# Altium integrated library Infineon_Microcontroller.IntLib: 721 symbols (part 64 of 66)
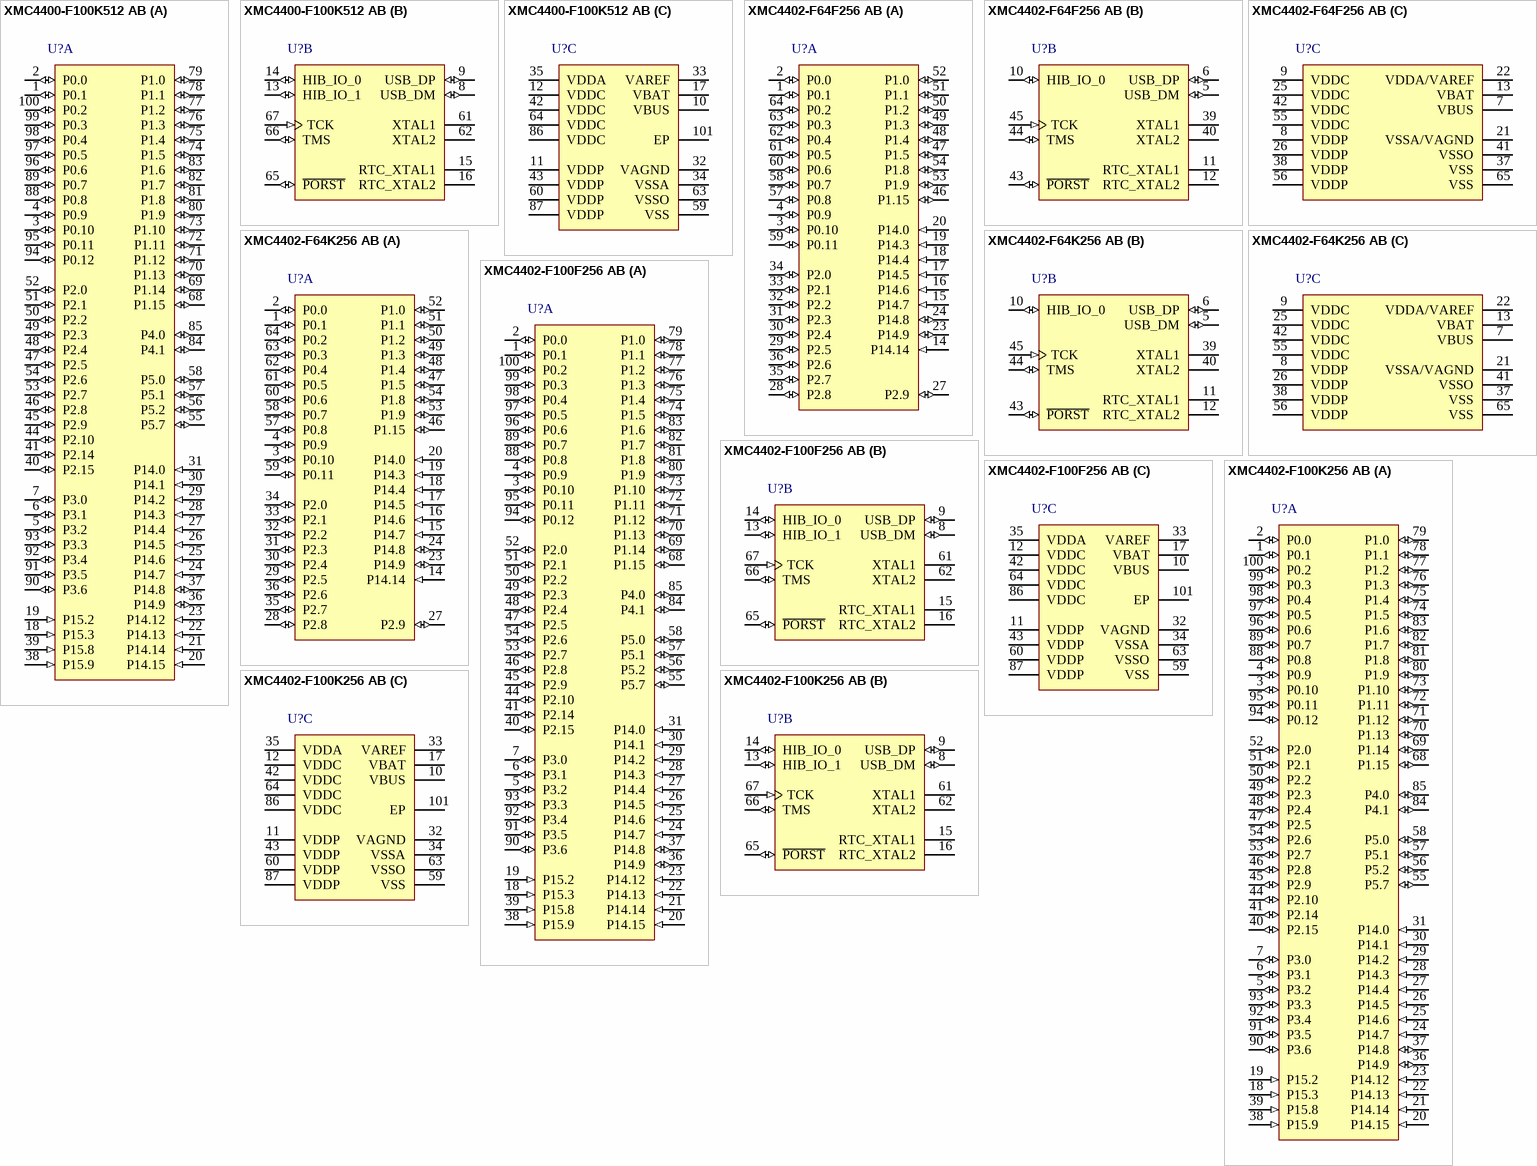
[diagram p181: symbols XMC4400-F100K512 AB to XMC4402-F100K256 AB]

## XMC4402-F100K256 AB
designator U?
120 MHz XMC4400 MCU with 256 KByte Program Memory, 80 KByte SRAM, 3.3 V, -40 to 125 degC, PG-LQFP-100, Green; Manufacturer: Infineon; PartNumber: XMC4402-F100K256 AB; A / D input lines (incl. FADC): 18; Digital I/O Lines: 55; Green: TRUE; Type of Memory: Flash; Type of Serial I/O Interfaces: 4xSPI, Dual SPI, Quad SPI, UART, LIN, IIC, IIS; DatasheetVersion: Rev. 0.6; PackageVersion: Rev. 11, 11/2012; PackageReference: PG-LQFP-100-11; PackageDescription: 100-Pin Plastic (Green) Low Profile Quad Flat Package, 14 x 14 mm Body, 0.5 mm Pitch; Group: XMC4400; Halogen-free: TRUE; Program Memory: 256 KByte; RoHS: TRUE; SRAM (incl. Cache): 80 KByte; Mounting Technology: Surface Mount; ComponentLink1Description: Manufacturer URL; ComponentLink1URL: http://www.infineon.com/; ComponentLink2Description: Datasheet; ComponentLink2URL: http://www.infineon.com/dgdl/xmc4400_ds_v0.6_2012_11_.pdf?folderId=db3a30433580b3710135a47f3eb76c98&fileId=db3a30433afc7e3e013b3cfb455565a3&location=en.Products.Microcontrollers.32-bit_Industrial_Microcontrollers_based_on_ARM__Cortex_-M.32-bit_XMC4000_Industrial_Microcontrollers_ARM__Cortex_-M4.DATASHEET.xmc4400_ds_v0.6_2012_11_.pdf; ComponentLink3Description: Package Specification; ComponentLink3URL: http://www.infineon.com/dgdl/xmc4400_ds_v0.6_2012_11_.pdf?folderId=db3a30433580b3710135a47f3eb76c98&fileId=db3a30433afc7e3e013b3cfb455565a3&location=en.Products.Microcontrollers.32-bit_Industrial_Microcontrollers_based_on_ARM__Cortex_-M.32-bit_XMC4000_Industrial_Microcontrollers_ARM__Cortex_-M4.DATASHEET.xmc4400_ds_v0.6_2012_11_.pdf
footprint INF-PG-LQFP-100-11-7000X7000TP_N (QFP, 100-Leads, Body 14x14mm, Pitch 0.5mm, Thermal Pad 7x7mm, IPC Medium Density)
footprint INF-PG-LQFP-100-11-7000X7000TP_L (QFP, 100-Leads, Body 14x14mm, Pitch 0.5mm, Thermal Pad 7x7mm, IPC High Density)
footprint INF-PG-LQFP-100-11-7000X7000TP_M (QFP, 100-Leads, Body 14x14mm, Pitch 0.5mm, Thermal Pad 7x7mm, IPC Low Density)
part A pins: 1 P0.1 (io), 2 P0.0 (io), 3 P0.10 (io), 4 P0.9 (io), 5 P3.2 (io), 6 P3.1 (io), 7 P3.0 (io), 18 P15.3 (in), 19 P15.2 (in), 20 P14.15 (in), 21 P14.14 (in), 22 P14.13 (in), 23 P14.12 (in), 24 P14.7 (in), 25 P14.6 (in), 26 P14.5 (in), 27 P14.4 (in), 28 P14.3 (in), 29 P14.2 (in), 30 P14.1 (in), 31 P14.0 (in), 36 P14.9 (io), 37 P14.8 (io), 38 P15.9 (in), 39 P15.8 (in), 40 P2.15 (io), 41 P2.14 (io), 44 P2.10 (io), 45 P2.9 (io), 46 P2.8 (io), 47 P2.5 (io), 48 P2.4 (io), 49 P2.3 (io), 50 P2.2 (io), 51 P2.1 (io), 52 P2.0 (io), 53 P2.7 (io), 54 P2.6 (io), 55 P5.7 (io), 56 P5.2 (io), 57 P5.1 (io), 58 P5.0 (io), 68 P1.15 (io), 69 P1.14 (io), 70 P1.13 (io), 71 P1.12 (io), 72 P1.11 (io), 73 P1.10 (io), 74 P1.5 (io), 75 P1.4 (io), 76 P1.3 (io), 77 P1.2 (io), 78 P1.1 (io), 79 P1.0 (io), 80 P1.9 (io), 81 P1.8 (io), 82 P1.7 (io), 83 P1.6 (io), 84 P4.1 (io), 85 P4.0 (io), 88 P0.8 (io), 89 P0.7 (io), 90 P3.6 (io), 91 P3.5 (io), 92 P3.4 (io), 93 P3.3 (io), 94 P0.12 (io), 95 P0.11 (io), 96 P0.6 (io), 97 P0.5 (io), 98 P0.4 (io), 99 P0.3 (io), 100 P0.2 (io)
part B pins: 8 USB_DM (io), 9 USB_DP (io), 13 HIB_IO_1 (io), 14 HIB_IO_0 (io), 15 RTC_XTAL1, 16 RTC_XTAL2, 61 XTAL1, 62 XTAL2, 65 ~{PORST} (io) "Strong pull-down controlled by EVR. Weak pull-up active while strong pull-down is not active.", 66 TMS (io), 67 TCK (in)
part C pins: 10 VBUS (power), 11 VDDP (power), 12 VDDC (power), 17 VBAT (power) "When VDDP is supplied VBAT has to be supplied as well.", 32 VAGND (power), 33 VAREF (power), 34 VSSA (power), 35 VDDA (power), 42 VDDC (power), 43 VDDP (power), 59 VSS (power), 60 VDDP (power), 63 VSSO (power), 64 VDDC (power), 86 VDDC (power), 87 VDDP (power), 101 EP (power) "Exposed Die Pad"

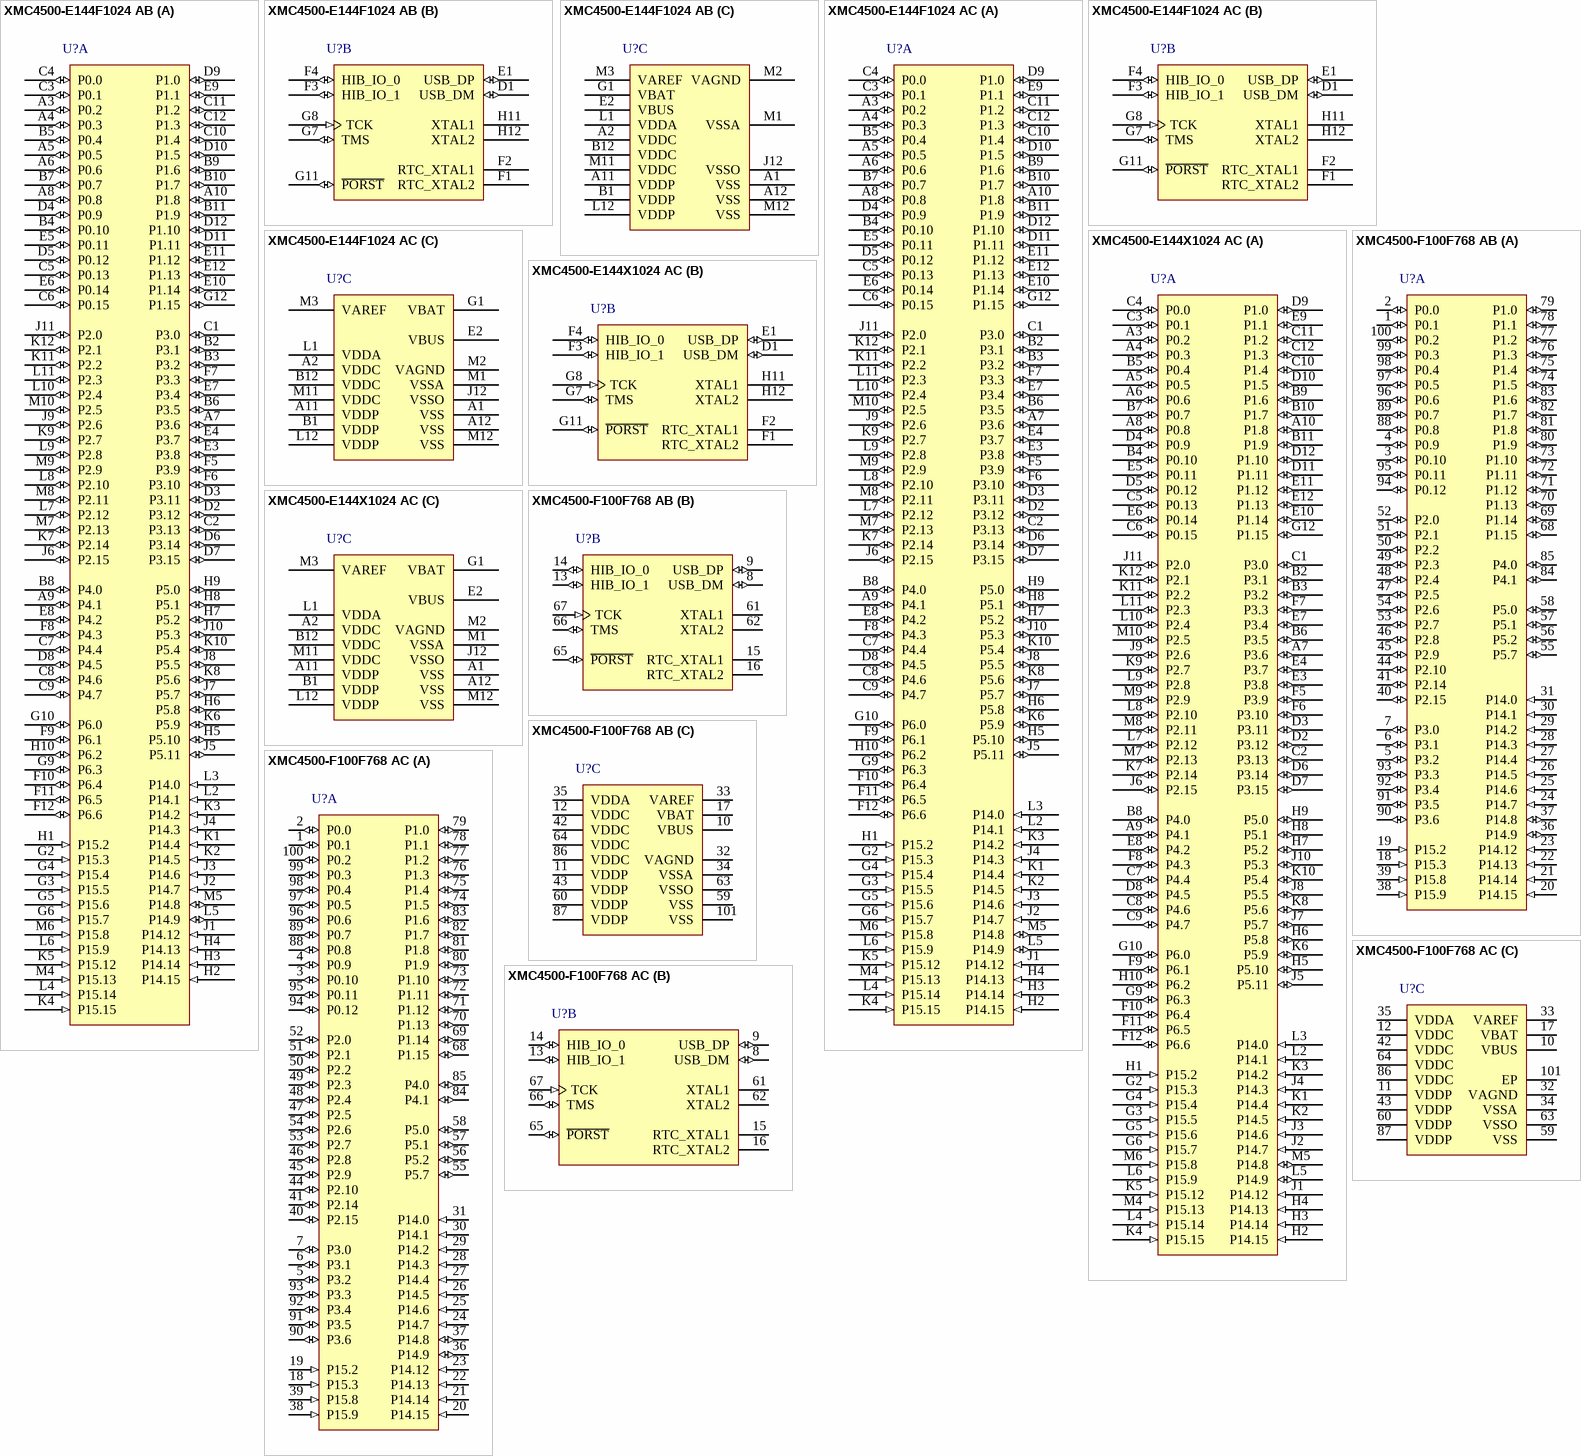
[diagram p113: symbols XMC4500-E144F1024 AB to XMC4500-F100F768 AC]

## XMC4500-E144F1024 AB
designator U?
120 MHz XMC4500 MCU with 1,024 KByte Program Memory, 160 KByte SRAM, 3.3 V, -40 to 85 degC, PG-LFBGA-144, Green; Manufacturer: Infineon; PartNumber: XMC4500-E144F1024 AB; A / D input lines (incl. FADC): 26; Digital I/O Lines: 91; Green: TRUE; Program Memory: 1024 KByte; Type of Memory: Flash; Type of Serial I/O Interfaces: 6xSPI, Dual SPI, Quad SPI, UART, LIN, IIC, IIS; DatasheetVersion: Rev. 1.0; PackageVersion: Jan-13; PackageReference: PG-LFBGA-144-10; PackageDescription: 144-Pin Plastic (Green) Low Profile Fine Pitch Ball Grid Array, 10 x 10 mm Body, 0.8 mm Pitch; Supplier 1: Digi-Key; Supplier Part Number 1: XMC4500-E144F1024 ABIN-ND; Group: XMC4500; Halogen-free: TRUE; RoHS: TRUE; SRAM (incl. Cache): 160 KByte; Mounting Technology: Surface Mount; ComponentLink1Description: Manufacturer URL; ComponentLink1URL: http://www.infineon.com/; ComponentLink2Description: Datasheet; ComponentLink2URL: http://www.infineon.com/dgdl/xmc4500_ds_v1+0_2013_01.pdf?folderId=db3a30433580b3710135a47f3eb76c98&fileId=db3a304335b504400135bdca7ed86742&location=en.Products.Microcontrollers.32-bit_Industrial_Microcontrollers_based_on_ARM__Cortex_-M.32-bit_XMC4000_Industrial_Microcontrollers_ARM__Cortex_-M4.DATASHEET.xmc4500_ds_v1 0_2013_01.pdf; ComponentLink3Description: Package Specification; ComponentLink3URL: http://www.infineon.com/dgdl/xmc4500_ds_v1+0_2013_01.pdf?folderId=db3a30433580b3710135a47f3eb76c98&fileId=db3a304335b504400135bdca7ed86742&location=en.Products.Microcontrollers.32-bit_Industrial_Microcontrollers_based_on_ARM__Cortex_-M.32-bit_XMC4000_Industrial_Microcontrollers_ARM__Cortex_-M4.DATASHEET.xmc4500_ds_v1 0_2013_01.pdf
footprint INF-PG-LFBGA-144-10 (BGA, 144-Balls, Body 10x10mm, Pitch 0.8mm)
part A pins: A3 P0.2 (io), A4 P0.3 (io), A5 P0.5 (io), A6 P0.6 (io), A7 P3.6 (io), A8 P0.8 (io), A9 P4.1 (io), A10 P1.8 (io), B2 P3.1 (io), B3 P3.2 (io), B4 P0.10 (io), B5 P0.4 (io), B6 P3.5 (io), B7 P0.7 (io), B8 P4.0 (io), B9 P1.6 (io), B10 P1.7 (io), B11 P1.9 (io), C1 P3.0 (io), C2 P3.13 (io), C3 P0.1 (io), C4 P0.0 (io), C5 P0.13 (io), C6 P0.15 (io), C7 P4.4 (io), C8 P4.6 (io), C9 P4.7 (io), C10 P1.4 (io), C11 P1.2 (io), C12 P1.3 (io), D2 P3.12 (io), D3 P3.11 (io), D4 P0.9 (io), D5 P0.12 (io), D6 P3.14 (io), D7 P3.15 (io), D8 P4.5 (io), D9 P1.0 (io), D10 P1.5 (io), D11 P1.11 (io), D12 P1.10 (io), E3 P3.8 (io), E4 P3.7 (io), E5 P0.11 (io), E6 P0.14 (io), E7 P3.4 (io), E8 P4.2 (io), E9 P1.1 (io), E10 P1.14 (io), E11 P1.12 (io), E12 P1.13 (io), F5 P3.9 (io), F6 P3.10 (io), F7 P3.3 (io), F8 P4.3 (io), F9 P6.1 (io), F10 P6.4 (io), F11 P6.5 (io), F12 P6.6 (io), G2 P15.3 (in), G3 P15.5 (in), G4 P15.4 (in), G5 P15.6 (in), G6 P15.7 (in), G9 P6.3 (io), G10 P6.0 (io), G12 P1.15 (io), H1 P15.2 (in), H2 P14.15 (in), H3 P14.14 (in), H4 P14.13 (in), H5 P5.10 (io), H6 P5.8 (io), H7 P5.2 (io), H8 P5.1 (io), H9 P5.0 (io), H10 P6.2 (io), J1 P14.12 (in), J2 P14.7 (in), J3 P14.6 (in), J4 P14.3 (in), J5 P5.11 (io), J6 P2.15 (io), J7 P5.7 (io), J8 P5.5 (io), J9 P2.6 (io), J10 P5.3 (io), J11 P2.0 (io), K1 P14.4 (in), K2 P14.5 (in), K3 P14.2 (in), K4 P15.15 (in), K5 P15.12 (in), K6 P5.9 (io), K7 P2.14 (io), K8 P5.6 (io), K9 P2.7 (io), K10 P5.4 (io), K11 P2.2 (io), K12 P2.1 (io), L2 P14.1 (in), L3 P14.0 (in), L4 P15.14 (in), L5 P14.9 (io), L6 P15.9 (in), L7 P2.12 (io), L8 P2.10 (io), L9 P2.8 (io), L10 P2.4 (io), L11 P2.3 (io), M4 P15.13 (in), M5 P14.8 (io), M6 P15.8 (in), M7 P2.13 (io), M8 P2.11 (io), M9 P2.9 (io), M10 P2.5 (io)
part B pins: D1 USB_DM (io), E1 USB_DP (io), F1 RTC_XTAL2, F2 RTC_XTAL1, F3 HIB_IO_1 (io), F4 HIB_IO_0 (io), G7 TMS (io), G8 TCK (in), G11 ~{PORST} (io), H11 XTAL1, H12 XTAL2
part C pins: A1 VSS (power), A2 VDDC (power), A11 VDDP (power), A12 VSS (power), B1 VDDP (power), B12 VDDC (power), E2 VBUS (power), G1 VBAT (power), J12 VSSO (power), L1 VDDA (power), L12 VDDP (power), M1 VSSA (power), M2 VAGND (power), M3 VAREF (power), M11 VDDC (power), M12 VSS (power)

## XMC4500-E144F1024 AC
designator U?
120 MHz XMC4500 MCU with 1024 KByte Program Memory, 160 KByte SRAM, 3.3 V, -40 to 150 degC, PG-LFBGA-144, Tray, Green; Manufacturer: Infineon; PartNumber: XMC4500-E144F1024 AC; A / D input lines (incl. FADC): 26; Digital I/O Lines: 91; Green: TRUE; I/O Operation Voltages: 3.3 V; Instruction set architecture: ARM(R) Cortex(TM)-M4 (32-bit); Max Clock Frequency: 120 MHz; Program Memory: 1,024 KByte; Type of Memory: Flash; Type of Serial I/O Interfaces: UART,SPI,I2C,I2S,LIN,USB,Ethernet 10/100,USB; DatasheetVersion: Rev. 1.3; PackageVersion: Jan-13; PackageReference: PG-LFBGA-144-10; PackageDescription: 144-Pin Plastic (Green) Low Profile Fine Pitch Ball Grid Array, 10 x 10 mm Body, 0.8 mm Pitch; Group: XMC4500; Halogen-free: TRUE; Packing: Tray; SRAM (incl. Cache): 160 KByte; Mounting Technology: Surface Mount; ComponentLink1Description: Manufacturer URL; ComponentLink1URL: http://www.infineon.com/; ComponentLink2Description: Datasheet; ComponentLink2URL: http://www.infineon.com/dgdl/xmc4500_ds_v1.3_2014_03.pdf?folderId=db3a30433580b3710135a47f3eb76c98&fileId=db3a304335b504400135bdca7ed86742; ComponentLink3Description: Package Specification; ComponentLink3URL: http://www.infineon.com/cms/packages/SMD_-_Surface_Mounted_Devices/P-PG-LFBGA/P-PG-LFBGA-144-10.html?__locale=en
footprint INF-PG-LFBGA-144-10 (BGA, 144-Balls, Body 10x10mm, Pitch 0.8mm)
part A pins: A3 P0.2 (io), A4 P0.3 (io), A5 P0.5 (io), A6 P0.6 (io), A7 P3.6 (io), A8 P0.8 (io), A9 P4.1 (io), A10 P1.8 (io), B2 P3.1 (io), B3 P3.2 (io), B4 P0.10 (io), B5 P0.4 (io), B6 P3.5 (io), B7 P0.7 (io), B8 P4.0 (io), B9 P1.6 (io), B10 P1.7 (io), B11 P1.9 (io), C1 P3.0 (io), C2 P3.13 (io), C3 P0.1 (io), C4 P0.0 (io), C5 P0.13 (io), C6 P0.15 (io), C7 P4.4 (io), C8 P4.6 (io), C9 P4.7 (io), C10 P1.4 (io), C11 P1.2 (io), C12 P1.3 (io), D2 P3.12 (io), D3 P3.11 (io), D4 P0.9 (io), D5 P0.12 (io), D6 P3.14 (io), D7 P3.15 (io), D8 P4.5 (io), D9 P1.0 (io), D10 P1.5 (io), D11 P1.11 (io), D12 P1.10 (io), E3 P3.8 (io), E4 P3.7 (io), E5 P0.11 (io), E6 P0.14 (io), E7 P3.4 (io), E8 P4.2 (io), E9 P1.1 (io), E10 P1.14 (io), E11 P1.12 (io), E12 P1.13 (io), F5 P3.9 (io), F6 P3.10 (io), F7 P3.3 (io), F8 P4.3 (io), F9 P6.1 (io), F10 P6.4 (io), F11 P6.5 (io), F12 P6.6 (io), G2 P15.3 (in), G3 P15.5 (in), G4 P15.4 (in), G5 P15.6 (in), G6 P15.7 (in), G9 P6.3 (io), G10 P6.0 (io), G12 P1.15 (io), H1 P15.2 (in), H2 P14.15 (in), H3 P14.14 (in), H4 P14.13 (in), H5 P5.10 (io), H6 P5.8 (io), H7 P5.2 (io), H8 P5.1 (io), H9 P5.0 (io), H10 P6.2 (io), J1 P14.12 (in), J2 P14.7 (in), J3 P14.6 (in), J4 P14.3 (in), J5 P5.11 (io), J6 P2.15 (io), J7 P5.7 (io), J8 P5.5 (io), J9 P2.6 (io), J10 P5.3 (io), J11 P2.0 (io), K1 P14.4 (in), K2 P14.5 (in), K3 P14.2 (in), K4 P15.15 (in), K5 P15.12 (in), K6 P5.9 (io), K7 P2.14 (io), K8 P5.6 (io), K9 P2.7 (io), K10 P5.4 (io), K11 P2.2 (io), K12 P2.1 (io), L2 P14.1 (in), L3 P14.0 (in), L4 P15.14 (in), L5 P14.9 (io), L6 P15.9 (in), L7 P2.12 (io), L8 P2.10 (io), L9 P2.8 (io), L10 P2.4 (io), L11 P2.3 (io), M4 P15.13 (in), M5 P14.8 (io), M6 P15.8 (in), M7 P2.13 (io), M8 P2.11 (io), M9 P2.9 (io), M10 P2.5 (io)
part B pins: D1 USB_DM (io), E1 USB_DP (io), F1 RTC_XTAL2, F2 RTC_XTAL1, F3 HIB_IO_1 (io), F4 HIB_IO_0 (io), G7 TMS (io), G8 TCK (in), G11 ~{PORST} (io), H11 XTAL1, H12 XTAL2
part C pins: A1 VSS (power), A2 VDDC (power), A11 VDDP (power), A12 VSS (power), B1 VDDP (power), B12 VDDC (power), E2 VBUS (power), G1 VBAT (power), J12 VSSO (power), L1 VDDA (power), L12 VDDP (power), M1 VSSA (power), M2 VAGND (power), M3 VAREF (power), M11 VDDC (power), M12 VSS (power)

## XMC4500-E144X1024 AC
designator U?
120 MHz XMC4500 MCU with 1024 KByte Program Memory, 160 KByte SRAM, 3.3 V, -40 to 105 degC, PG-LFBGA-144, Tray, Green; Manufacturer: Infineon; PartNumber: XMC4500-E144X1024 AC; A / D input lines (incl. FADC): 26; Digital I/O Lines: 91; Green: TRUE; I/O Operation Voltages: 3.3 V; Instruction set architecture: ARM(R) Cortex(TM)-M4 (32-bit); Max Clock Frequency: 120 MHz; Type of Memory: Flash; Type of Serial I/O Interfaces: UART,SPI,I2C,I2S,LIN,USB,Ethernet 10/100,USB; DatasheetVersion: Rev. 1.3; PackageVersion: Jan-13; PackageReference: PG-LFBGA-144-10; PackageDescription: 144-Pin Plastic (Green) Low Profile Fine Pitch Ball Grid Array, 10 x 10 mm Body, 0.8 mm Pitch; Supplier 1: Farnell; Supplier Part Number 1: 2418741; Supplier 2: Newark; Supplier Part Number 2: 52X6574; Group: XMC4500; Halogen-free: TRUE; Packing: Tray; Program Memory: 1024 KByte; SRAM (incl. Cache): 160 KByte; Mounting Technology: Surface Mount; ComponentLink1Description: Manufacturer URL; ComponentLink1URL: http://www.infineon.com/; ComponentLink2Description: Datasheet; ComponentLink2URL: http://www.infineon.com/dgdl/xmc4500_ds_v1.3_2014_03.pdf?folderId=db3a30433580b3710135a47f3eb76c98&fileId=db3a304335b504400135bdca7ed86742; ComponentLink3Description: Package Specification; ComponentLink3URL: http://www.infineon.com/cms/packages/SMD_-_Surface_Mounted_Devices/P-PG-LFBGA/P-PG-LFBGA-144-10.html?__locale=en
footprint INF-PG-LFBGA-144-10 (BGA, 144-Balls, Body 10x10mm, Pitch 0.8mm)
part A pins: A3 P0.2 (io), A4 P0.3 (io), A5 P0.5 (io), A6 P0.6 (io), A7 P3.6 (io), A8 P0.8 (io), A9 P4.1 (io), A10 P1.8 (io), B2 P3.1 (io), B3 P3.2 (io), B4 P0.10 (io), B5 P0.4 (io), B6 P3.5 (io), B7 P0.7 (io), B8 P4.0 (io), B9 P1.6 (io), B10 P1.7 (io), B11 P1.9 (io), C1 P3.0 (io), C2 P3.13 (io), C3 P0.1 (io), C4 P0.0 (io), C5 P0.13 (io), C6 P0.15 (io), C7 P4.4 (io), C8 P4.6 (io), C9 P4.7 (io), C10 P1.4 (io), C11 P1.2 (io), C12 P1.3 (io), D2 P3.12 (io), D3 P3.11 (io), D4 P0.9 (io), D5 P0.12 (io), D6 P3.14 (io), D7 P3.15 (io), D8 P4.5 (io), D9 P1.0 (io), D10 P1.5 (io), D11 P1.11 (io), D12 P1.10 (io), E3 P3.8 (io), E4 P3.7 (io), E5 P0.11 (io), E6 P0.14 (io), E7 P3.4 (io), E8 P4.2 (io), E9 P1.1 (io), E10 P1.14 (io), E11 P1.12 (io), E12 P1.13 (io), F5 P3.9 (io), F6 P3.10 (io), F7 P3.3 (io), F8 P4.3 (io), F9 P6.1 (io), F10 P6.4 (io), F11 P6.5 (io), F12 P6.6 (io), G2 P15.3 (in), G3 P15.5 (in), G4 P15.4 (in), G5 P15.6 (in), G6 P15.7 (in), G9 P6.3 (io), G10 P6.0 (io), G12 P1.15 (io), H1 P15.2 (in), H2 P14.15 (in), H3 P14.14 (in), H4 P14.13 (in), H5 P5.10 (io), H6 P5.8 (io), H7 P5.2 (io), H8 P5.1 (io), H9 P5.0 (io), H10 P6.2 (io), J1 P14.12 (in), J2 P14.7 (in), J3 P14.6 (in), J4 P14.3 (in), J5 P5.11 (io), J6 P2.15 (io), J7 P5.7 (io), J8 P5.5 (io), J9 P2.6 (io), J10 P5.3 (io), J11 P2.0 (io), K1 P14.4 (in), K2 P14.5 (in), K3 P14.2 (in), K4 P15.15 (in), K5 P15.12 (in), K6 P5.9 (io), K7 P2.14 (io), K8 P5.6 (io), K9 P2.7 (io), K10 P5.4 (io), K11 P2.2 (io), K12 P2.1 (io), L2 P14.1 (in), L3 P14.0 (in), L4 P15.14 (in), L5 P14.9 (io), L6 P15.9 (in), L7 P2.12 (io), L8 P2.10 (io), L9 P2.8 (io), L10 P2.4 (io), L11 P2.3 (io), M4 P15.13 (in), M5 P14.8 (io), M6 P15.8 (in), M7 P2.13 (io), M8 P2.11 (io), M9 P2.9 (io), M10 P2.5 (io)
part B pins: D1 USB_DM (io), E1 USB_DP (io), F1 RTC_XTAL2, F2 RTC_XTAL1, F3 HIB_IO_1 (io), F4 HIB_IO_0 (io), G7 TMS (io), G8 TCK (in), G11 ~{PORST} (io), H11 XTAL1, H12 XTAL2
part C pins: A1 VSS (power), A2 VDDC (power), A11 VDDP (power), A12 VSS (power), B1 VDDP (power), B12 VDDC (power), E2 VBUS (power), G1 VBAT (power), J12 VSSO (power), L1 VDDA (power), L12 VDDP (power), M1 VSSA (power), M2 VAGND (power), M3 VAREF (power), M11 VDDC (power), M12 VSS (power)

## XMC4500-F100F768 AB
designator U?
120 MHz XMC4500 MCU with 768 KByte Program Memory, 160 KByte SRAM, 3.3 V, -40 to 85 degC, PG-LQFP-100, Green; Manufacturer: Infineon; PartNumber: XMC4500-F100F768 AB; A / D input lines (incl. FADC): 18; Digital I/O Lines: 55; Green: TRUE; Type of Memory: Flash; Type of Serial I/O Interfaces: 6xSPI, Dual SPI, Quad SPI, UART, LIN, IIC, IIS; DatasheetVersion: Rev. 1.0; PackageVersion: Rev. 11, 11/2012; PackageReference: PG-LQFP-100-11; PackageDescription: 100-Pin Plastic (Green) Low Profile Quad Flat Package, 14 x 14 mm Body, 0.5 mm Pitch; Group: XMC4500; Halogen-free: TRUE; Program Memory: 768 KByte; RoHS: TRUE; SRAM (incl. Cache): 160 KByte; Mounting Technology: Surface Mount; ComponentLink1Description: Manufacturer URL; ComponentLink1URL: http://www.infineon.com/; ComponentLink2Description: Datasheet; ComponentLink2URL: http://www.infineon.com/dgdl/xmc4500_ds_v1+0_2013_01.pdf?folderId=db3a30433580b3710135a47f3eb76c98&fileId=db3a304335b504400135bdca7ed86742&location=en.Products.Microcontrollers.32-bit_Industrial_Microcontrollers_based_on_ARM__Cortex_-M.32-bit_XMC4000_Industrial_Microcontrollers_ARM__Cortex_-M4.DATASHEET.xmc4500_ds_v1 0_2013_01.pdf; ComponentLink3Description: Package Specification; ComponentLink3URL: http://www.infineon.com/dgdl/xmc4400_ds_v0.6_2012_11_.pdf?folderId=db3a30433580b3710135a47f3eb76c98&fileId=db3a30433afc7e3e013b3cfb455565a3&location=en.Products.Microcontrollers.32-bit_Industrial_Microcontrollers_based_on_ARM__Cortex_-M.32-bit_XMC4000_Industrial_Microcontrollers_ARM__Cortex_-M4.DATASHEET.xmc4400_ds_v0.6_2012_11_.pdf
footprint INF-PG-LQFP-100-11-7000X7000TP_N (QFP, 100-Leads, Body 14x14mm, Pitch 0.5mm, Thermal Pad 7x7mm, IPC Medium Density)
footprint INF-PG-LQFP-100-11-7000X7000TP_L (QFP, 100-Leads, Body 14x14mm, Pitch 0.5mm, Thermal Pad 7x7mm, IPC High Density)
footprint INF-PG-LQFP-100-11-7000X7000TP_M (QFP, 100-Leads, Body 14x14mm, Pitch 0.5mm, Thermal Pad 7x7mm, IPC Low Density)
part A pins: 1 P0.1 (io), 2 P0.0 (io), 3 P0.10 (io), 4 P0.9 (io), 5 P3.2 (io), 6 P3.1 (io), 7 P3.0 (io), 18 P15.3 (in), 19 P15.2 (in), 20 P14.15 (in), 21 P14.14 (in), 22 P14.13 (in), 23 P14.12 (in), 24 P14.7 (in), 25 P14.6 (in), 26 P14.5 (in), 27 P14.4 (in), 28 P14.3 (in), 29 P14.2 (in), 30 P14.1 (in), 31 P14.0 (in), 36 P14.9 (io), 37 P14.8 (io), 38 P15.9 (in), 39 P15.8 (in), 40 P2.15 (io), 41 P2.14 (io), 44 P2.10 (io), 45 P2.9 (io), 46 P2.8 (io), 47 P2.5 (io), 48 P2.4 (io), 49 P2.3 (io), 50 P2.2 (io), 51 P2.1 (io), 52 P2.0 (io), 53 P2.7 (io), 54 P2.6 (io), 55 P5.7 (io), 56 P5.2 (io), 57 P5.1 (io), 58 P5.0 (io), 68 P1.15 (io), 69 P1.14 (io), 70 P1.13 (io), 71 P1.12 (io), 72 P1.11 (io), 73 P1.10 (io), 74 P1.5 (io), 75 P1.4 (io), 76 P1.3 (io), 77 P1.2 (io), 78 P1.1 (io), 79 P1.0 (io), 80 P1.9 (io), 81 P1.8 (io), 82 P1.7 (io), 83 P1.6 (io), 84 P4.1 (io), 85 P4.0 (io), 88 P0.8 (io), 89 P0.7 (io), 90 P3.6 (io), 91 P3.5 (io), 92 P3.4 (io), 93 P3.3 (io), 94 P0.12 (io), 95 P0.11 (io), 96 P0.6 (io), 97 P0.5 (io), 98 P0.4 (io), 99 P0.3 (io), 100 P0.2 (io)
part B pins: 8 USB_DM (io), 9 USB_DP (io), 13 HIB_IO_1 (io), 14 HIB_IO_0 (io), 15 RTC_XTAL1, 16 RTC_XTAL2, 61 XTAL1, 62 XTAL2, 65 ~{PORST} (io) "Weak pull-up permanently active, strong pull-down controlled by EVR.", 66 TMS (io), 67 TCK (in)
part C pins: 10 VBUS (power), 11 VDDP (power), 12 VDDC (power), 17 VBAT (power) "When VDDP is supplied VBAT has to be supplied as well.", 32 VAGND (power), 33 VAREF (power), 34 VSSA (power), 35 VDDA (power), 42 VDDC (power), 43 VDDP (power), 59 VSS (power), 60 VDDP (power), 63 VSSO (power), 64 VDDC (power), 86 VDDC (power), 87 VDDP (power), 101 VSS (power) "Exposed Die Pad The exposed die pad is connected internally to VSS. For proper operation, it is mandatory to connect the exposed pad to the board ground. For thermal aspects, please refer to the Package and Reliability (See Datasheet)"

## XMC4500-F100F768 AC
designator U?
120 MHz XMC4500 MCU with 768 KByte Program Memory, 160 KByte SRAM, 3.3 V, -40 to 150 degC, PG-LQFP-100, Tray, Green; Manufacturer: Infineon; PartNumber: XMC4500-F100F768 AC; A / D input lines (incl. FADC): 18; Digital I/O Lines: 55; Green: TRUE; I/O Operation Voltages: 3.3 V; Instruction set architecture: ARM(R) Cortex(TM)-M4 (32-bit); Max Clock Frequency: 120 MHz; Type of Memory: Flash; Type of Serial I/O Interfaces: UART,SPI,I2C,I2S,LIN,CAN,Ethernet 10/100,USB; DatasheetVersion: Rev. 1.3; PackageVersion: Mar-13; PackageReference: PG-LQFP-100-11; PackageDescription: 100-Pin Plastic (Green) Low Profile Quad Flat Package, 14 x 14 mm Body, 0.5 mm Pitch; Group: XMC4500; Halogen-free: TRUE; Packing: Tray; Program Memory: 768 KByte; SRAM (incl. Cache): 160 KByte; Mounting Technology: Surface Mount; ComponentLink1Description: Manufacturer URL; ComponentLink1URL: http://www.infineon.com/; ComponentLink2Description: Datasheet; ComponentLink2URL: http://www.infineon.com/dgdl/xmc4500_ds_v1.3_2014_03.pdf?folderId=db3a30433580b3710135a47f3eb76c98&fileId=db3a304335b504400135bdca7ed86742; ComponentLink3Description: Package Specification; ComponentLink3URL: http://www.infineon.com/dgdl/PG-LQFP-100-3%2C-4%2C-8%2C-11-Package_Overview.pdf?folderId=db3a30431a5c32f2011a90c5ac475987&fileId=db3a30431a5c32f2011a9129fcd359d1
footprint INF-PG-LQFP-100-11-7000X7000TP_N (QFP, 100-Leads, Body 14x14mm, Pitch 0.5mm, Thermal Pad 7x7mm, IPC Medium Density)
footprint INF-PG-LQFP-100-11-7000X7000TP_L (QFP, 100-Leads, Body 14x14mm, Pitch 0.5mm, Thermal Pad 7x7mm, IPC High Density)
footprint INF-PG-LQFP-100-11-7000X7000TP_M (QFP, 100-Leads, Body 14x14mm, Pitch 0.5mm, Thermal Pad 7x7mm, IPC Low Density)
part A pins: 1 P0.1 (io), 2 P0.0 (io), 3 P0.10 (io), 4 P0.9 (io), 5 P3.2 (io), 6 P3.1 (io), 7 P3.0 (io), 18 P15.3 (in), 19 P15.2 (in), 20 P14.15 (in), 21 P14.14 (in), 22 P14.13 (in), 23 P14.12 (in), 24 P14.7 (in), 25 P14.6 (in), 26 P14.5 (in), 27 P14.4 (in), 28 P14.3 (in), 29 P14.2 (in), 30 P14.1 (in), 31 P14.0 (in), 36 P14.9 (io), 37 P14.8 (io), 38 P15.9 (in), 39 P15.8 (in), 40 P2.15 (io), 41 P2.14 (io), 44 P2.10 (io), 45 P2.9 (io), 46 P2.8 (io), 47 P2.5 (io), 48 P2.4 (io), 49 P2.3 (io), 50 P2.2 (io), 51 P2.1 (io), 52 P2.0 (io), 53 P2.7 (io), 54 P2.6 (io), 55 P5.7 (io), 56 P5.2 (io), 57 P5.1 (io), 58 P5.0 (io), 68 P1.15 (io), 69 P1.14 (io), 70 P1.13 (io), 71 P1.12 (io), 72 P1.11 (io), 73 P1.10 (io), 74 P1.5 (io), 75 P1.4 (io), 76 P1.3 (io), 77 P1.2 (io), 78 P1.1 (io), 79 P1.0 (io), 80 P1.9 (io), 81 P1.8 (io), 82 P1.7 (io), 83 P1.6 (io), 84 P4.1 (io), 85 P4.0 (io), 88 P0.8 (io), 89 P0.7 (io), 90 P3.6 (io), 91 P3.5 (io), 92 P3.4 (io), 93 P3.3 (io), 94 P0.12 (io), 95 P0.11 (io), 96 P0.6 (io), 97 P0.5 (io), 98 P0.4 (io), 99 P0.3 (io), 100 P0.2 (io)
part B pins: 8 USB_DM (io), 9 USB_DP (io), 13 HIB_IO_1 (io), 14 HIB_IO_0 (io), 15 RTC_XTAL1, 16 RTC_XTAL2, 61 XTAL1, 62 XTAL2, 65 ~{PORST} (io) "Weak pull-up permanently active, strong pull-down controlled by EVR.", 66 TMS (io) "Weak pull-up active.As output the strong-soft driver mode is active", 67 TCK (in) "Weak pull-down active."
part C pins: 10 VBUS (power), 11 VDDP (power), 12 VDDC (power), 17 VBAT (power) "When VDDP is supplied VBAT has to be supplied as well", 32 VAGND (power), 33 VAREF (power), 34 VSSA (power), 35 VDDA (power), 42 VDDC (power), 43 VDDP (power), 59 VSS (power), 60 VDDP (power), 63 VSSO (power), 64 VDDC (power), 86 VDDC (power), 87 VDDP (power), 101 EP (power) "Exposed Die Pad The exposed die pad is connected internally to VSS. For proper operation, it is mandatory to connect the exposed pad directly to the common ground on the board For thermal aspects,please refer to the Data (See Datasheet)"

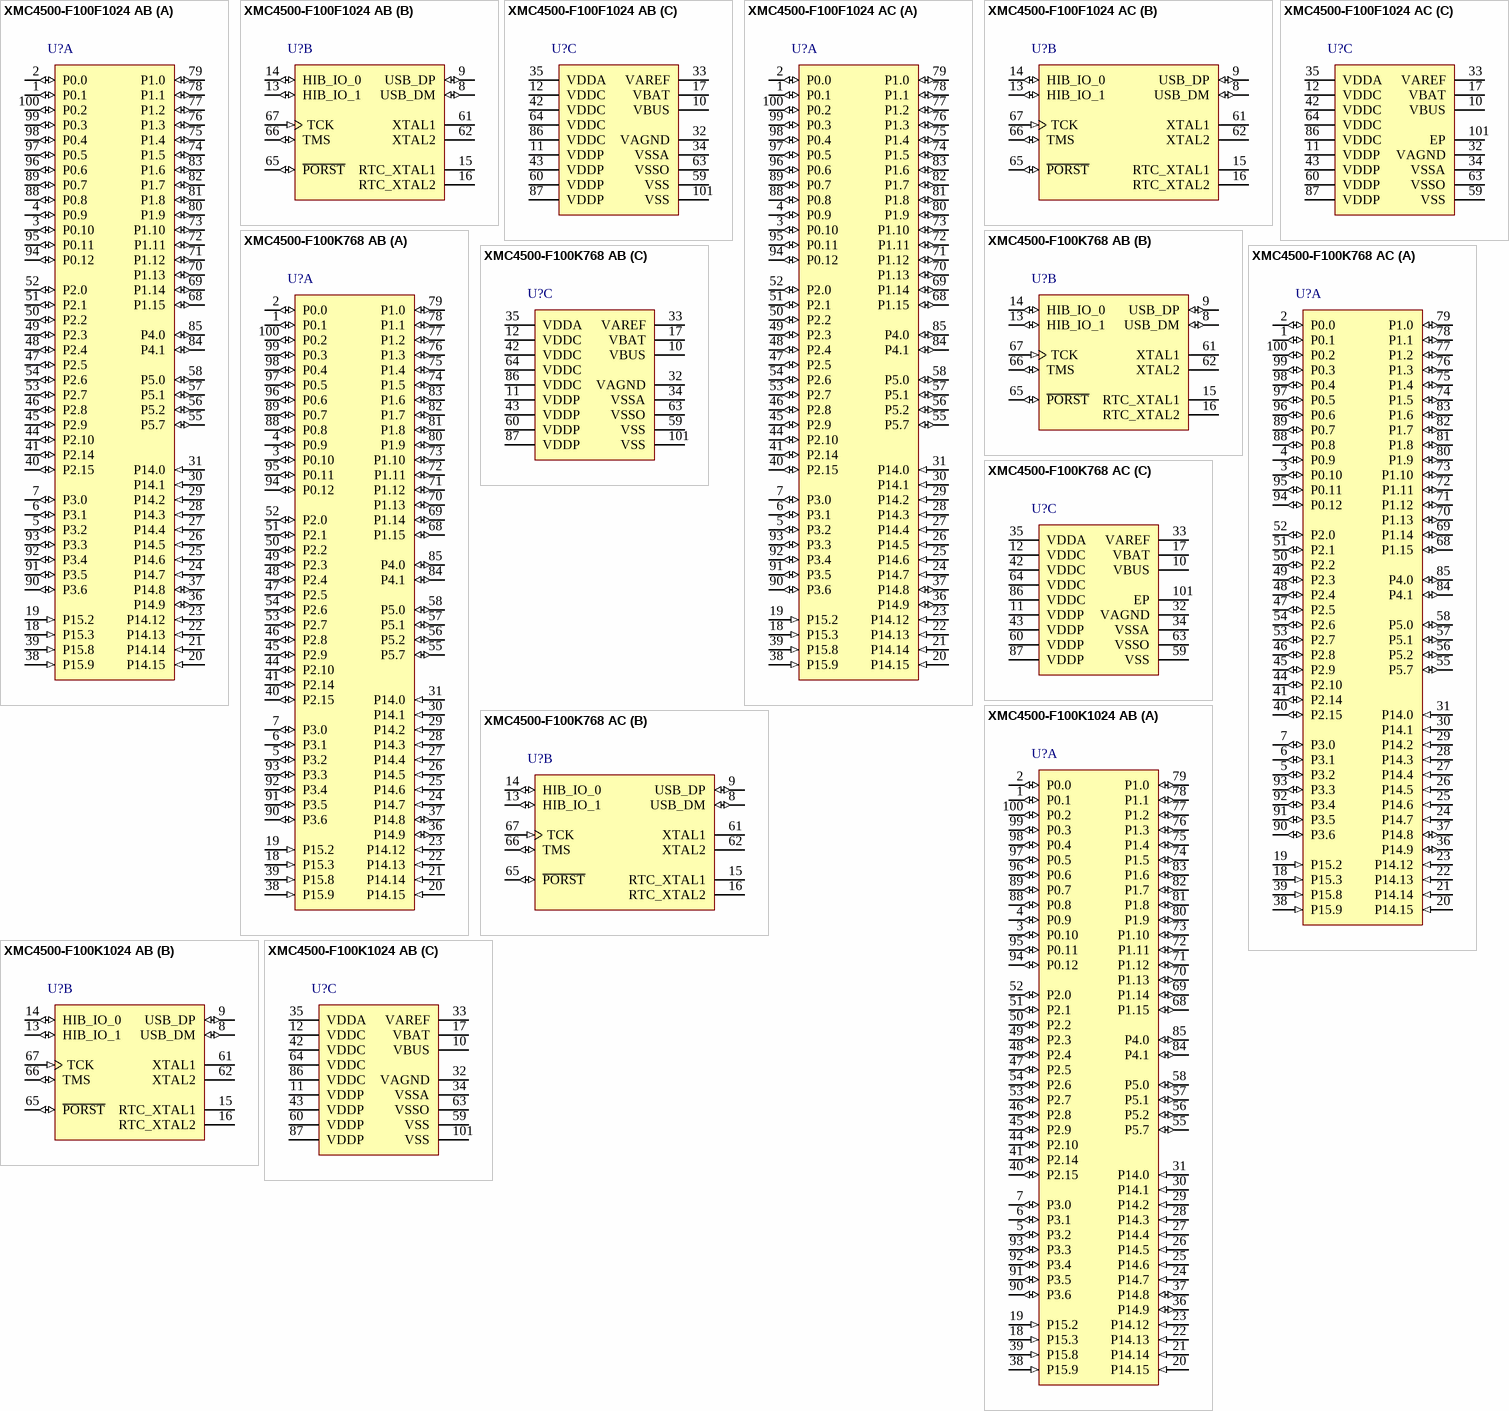
[diagram p114: symbols XMC4500-F100F1024 AB to XMC4500-F100K1024 AB]

## XMC4500-F100F1024 AB
designator U?
120 MHz XMC4500 MCU with 1,024 KByte Program Memory, 160 KByte SRAM, 3.3 V, -40 to 85 degC, PG-LQFP-100, Green; Manufacturer: Infineon; PartNumber: XMC4500-F100F1024 AB; A / D input lines (incl. FADC): 18; Digital I/O Lines: 55; Green: TRUE; Program Memory: 1024 KByte; Type of Memory: Flash; Type of Serial I/O Interfaces: 6xSPI, Dual SPI, Quad SPI, UART, LIN, IIC, IIS; DatasheetVersion: Rev. 1.0; PackageVersion: Rev. 11, 11/2012; PackageReference: PG-LQFP-100-11; PackageDescription: 100-Pin Plastic (Green) Low Profile Quad Flat Package, 14 x 14 mm Body, 0.5 mm Pitch; Supplier 1: Digi-Key; Supplier Part Number 1: XMC4500-F100F1024 ABIN-ND; Group: XMC4500; Halogen-free: TRUE; RoHS: TRUE; SRAM (incl. Cache): 160 KByte; Mounting Technology: Surface Mount; ComponentLink1Description: Manufacturer URL; ComponentLink1URL: http://www.infineon.com/; ComponentLink2Description: Datasheet; ComponentLink2URL: http://www.infineon.com/dgdl/xmc4500_ds_v1+0_2013_01.pdf?folderId=db3a30433580b3710135a47f3eb76c98&fileId=db3a304335b504400135bdca7ed86742&location=en.Products.Microcontrollers.32-bit_Industrial_Microcontrollers_based_on_ARM__Cortex_-M.32-bit_XMC4000_Industrial_Microcontrollers_ARM__Cortex_-M4.DATASHEET.xmc4500_ds_v1 0_2013_01.pdf; ComponentLink3Description: Package Specification; ComponentLink3URL: http://www.infineon.com/dgdl/xmc4400_ds_v0.6_2012_11_.pdf?folderId=db3a30433580b3710135a47f3eb76c98&fileId=db3a30433afc7e3e013b3cfb455565a3&location=en.Products.Microcontrollers.32-bit_Industrial_Microcontrollers_based_on_ARM__Cortex_-M.32-bit_XMC4000_Industrial_Microcontrollers_ARM__Cortex_-M4.DATASHEET.xmc4400_ds_v0.6_2012_11_.pdf
footprint INF-PG-LQFP-100-11-7000X7000TP_N (QFP, 100-Leads, Body 14x14mm, Pitch 0.5mm, Thermal Pad 7x7mm, IPC Medium Density)
footprint INF-PG-LQFP-100-11-7000X7000TP_L (QFP, 100-Leads, Body 14x14mm, Pitch 0.5mm, Thermal Pad 7x7mm, IPC High Density)
footprint INF-PG-LQFP-100-11-7000X7000TP_M (QFP, 100-Leads, Body 14x14mm, Pitch 0.5mm, Thermal Pad 7x7mm, IPC Low Density)
part A pins: 1 P0.1 (io), 2 P0.0 (io), 3 P0.10 (io), 4 P0.9 (io), 5 P3.2 (io), 6 P3.1 (io), 7 P3.0 (io), 18 P15.3 (in), 19 P15.2 (in), 20 P14.15 (in), 21 P14.14 (in), 22 P14.13 (in), 23 P14.12 (in), 24 P14.7 (in), 25 P14.6 (in), 26 P14.5 (in), 27 P14.4 (in), 28 P14.3 (in), 29 P14.2 (in), 30 P14.1 (in), 31 P14.0 (in), 36 P14.9 (io), 37 P14.8 (io), 38 P15.9 (in), 39 P15.8 (in), 40 P2.15 (io), 41 P2.14 (io), 44 P2.10 (io), 45 P2.9 (io), 46 P2.8 (io), 47 P2.5 (io), 48 P2.4 (io), 49 P2.3 (io), 50 P2.2 (io), 51 P2.1 (io), 52 P2.0 (io), 53 P2.7 (io), 54 P2.6 (io), 55 P5.7 (io), 56 P5.2 (io), 57 P5.1 (io), 58 P5.0 (io), 68 P1.15 (io), 69 P1.14 (io), 70 P1.13 (io), 71 P1.12 (io), 72 P1.11 (io), 73 P1.10 (io), 74 P1.5 (io), 75 P1.4 (io), 76 P1.3 (io), 77 P1.2 (io), 78 P1.1 (io), 79 P1.0 (io), 80 P1.9 (io), 81 P1.8 (io), 82 P1.7 (io), 83 P1.6 (io), 84 P4.1 (io), 85 P4.0 (io), 88 P0.8 (io), 89 P0.7 (io), 90 P3.6 (io), 91 P3.5 (io), 92 P3.4 (io), 93 P3.3 (io), 94 P0.12 (io), 95 P0.11 (io), 96 P0.6 (io), 97 P0.5 (io), 98 P0.4 (io), 99 P0.3 (io), 100 P0.2 (io)
part B pins: 8 USB_DM (io), 9 USB_DP (io), 13 HIB_IO_1 (io), 14 HIB_IO_0 (io), 15 RTC_XTAL1, 16 RTC_XTAL2, 61 XTAL1, 62 XTAL2, 65 ~{PORST} (io) "Weak pull-up permanently active, strong pull-down controlled by EVR.", 66 TMS (io), 67 TCK (in)
part C pins: 10 VBUS (power), 11 VDDP (power), 12 VDDC (power), 17 VBAT (power) "When VDDP is supplied VBAT has to be supplied as well.", 32 VAGND (power), 33 VAREF (power), 34 VSSA (power), 35 VDDA (power), 42 VDDC (power), 43 VDDP (power), 59 VSS (power), 60 VDDP (power), 63 VSSO (power), 64 VDDC (power), 86 VDDC (power), 87 VDDP (power), 101 VSS (power) "Exposed Die Pad The exposed die pad is connected internally to VSS. For proper operation, it is mandatory to connect the exposed pad to the board ground. For thermal aspects, please refer to the Package and Reliability (See Datasheet)"

## XMC4500-F100F1024 AC
designator U?
120 MHz XMC4500 MCU with 1024 KByte Program Memory, 160 KByte SRAM, 3.3 V, -40 to 150 degC, PG-LQFP-100, Tray, Green; Manufacturer: Infineon; PartNumber: XMC4500-F100F1024 AC; A / D input lines (incl. FADC): 18; Digital I/O Lines: 55; Green: TRUE; I/O Operation Voltages: 3.3 V; Instruction set architecture: ARM(R) Cortex(TM)-M4 (32-bit); Max Clock Frequency: 120 MHz; Program Memory: 1,024 KByte; Type of Memory: Flash; Type of Serial I/O Interfaces: UART,SPI,I2C,I2S,LIN,CAN,Ethernet 10/100,USB; DatasheetVersion: Rev. 1.3; PackageVersion: Mar-13; PackageReference: PG-LQFP-100-11; PackageDescription: 100-Pin Plastic (Green) Low Profile Quad Flat Package, 14 x 14 mm Body, 0.5 mm Pitch; Group: XMC4500; Halogen-free: TRUE; Packing: Tray; SRAM (incl. Cache): 160 KByte; Mounting Technology: Surface Mount; ComponentLink1Description: Manufacturer URL; ComponentLink1URL: http://www.infineon.com/; ComponentLink2Description: Datasheet; ComponentLink2URL: http://www.infineon.com/dgdl/xmc4500_ds_v1.3_2014_03.pdf?folderId=db3a30433580b3710135a47f3eb76c98&fileId=db3a304335b504400135bdca7ed86742; ComponentLink3Description: Package Specification; ComponentLink3URL: http://www.infineon.com/dgdl/PG-LQFP-100-3%2C-4%2C-8%2C-11-Package_Overview.pdf?folderId=db3a30431a5c32f2011a90c5ac475987&fileId=db3a30431a5c32f2011a9129fcd359d1
footprint INF-PG-LQFP-100-11-7000X7000TP_N (QFP, 100-Leads, Body 14x14mm, Pitch 0.5mm, Thermal Pad 7x7mm, IPC Medium Density)
footprint INF-PG-LQFP-100-11-7000X7000TP_L (QFP, 100-Leads, Body 14x14mm, Pitch 0.5mm, Thermal Pad 7x7mm, IPC High Density)
footprint INF-PG-LQFP-100-11-7000X7000TP_M (QFP, 100-Leads, Body 14x14mm, Pitch 0.5mm, Thermal Pad 7x7mm, IPC Low Density)
part A pins: 1 P0.1 (io), 2 P0.0 (io), 3 P0.10 (io), 4 P0.9 (io), 5 P3.2 (io), 6 P3.1 (io), 7 P3.0 (io), 18 P15.3 (in), 19 P15.2 (in), 20 P14.15 (in), 21 P14.14 (in), 22 P14.13 (in), 23 P14.12 (in), 24 P14.7 (in), 25 P14.6 (in), 26 P14.5 (in), 27 P14.4 (in), 28 P14.3 (in), 29 P14.2 (in), 30 P14.1 (in), 31 P14.0 (in), 36 P14.9 (io), 37 P14.8 (io), 38 P15.9 (in), 39 P15.8 (in), 40 P2.15 (io), 41 P2.14 (io), 44 P2.10 (io), 45 P2.9 (io), 46 P2.8 (io), 47 P2.5 (io), 48 P2.4 (io), 49 P2.3 (io), 50 P2.2 (io), 51 P2.1 (io), 52 P2.0 (io), 53 P2.7 (io), 54 P2.6 (io), 55 P5.7 (io), 56 P5.2 (io), 57 P5.1 (io), 58 P5.0 (io), 68 P1.15 (io), 69 P1.14 (io), 70 P1.13 (io), 71 P1.12 (io), 72 P1.11 (io), 73 P1.10 (io), 74 P1.5 (io), 75 P1.4 (io), 76 P1.3 (io), 77 P1.2 (io), 78 P1.1 (io), 79 P1.0 (io), 80 P1.9 (io), 81 P1.8 (io), 82 P1.7 (io), 83 P1.6 (io), 84 P4.1 (io), 85 P4.0 (io), 88 P0.8 (io), 89 P0.7 (io), 90 P3.6 (io), 91 P3.5 (io), 92 P3.4 (io), 93 P3.3 (io), 94 P0.12 (io), 95 P0.11 (io), 96 P0.6 (io), 97 P0.5 (io), 98 P0.4 (io), 99 P0.3 (io), 100 P0.2 (io)
part B pins: 8 USB_DM (io), 9 USB_DP (io), 13 HIB_IO_1 (io), 14 HIB_IO_0 (io), 15 RTC_XTAL1, 16 RTC_XTAL2, 61 XTAL1, 62 XTAL2, 65 ~{PORST} (io) "Weak pull-up permanently active, strong pull-down controlled by EVR.", 66 TMS (io) "Weak pull-up active.As output the strong-soft driver mode is active", 67 TCK (in) "Weak pull-down active."
part C pins: 10 VBUS (power), 11 VDDP (power), 12 VDDC (power), 17 VBAT (power) "When VDDP is supplied VBAT has to be supplied as well", 32 VAGND (power), 33 VAREF (power), 34 VSSA (power), 35 VDDA (power), 42 VDDC (power), 43 VDDP (power), 59 VSS (power), 60 VDDP (power), 63 VSSO (power), 64 VDDC (power), 86 VDDC (power), 87 VDDP (power), 101 EP (power) "Exposed Die Pad The exposed die pad is connected internally to VSS. For proper operation, it is mandatory to connect the exposed pad directly to the common ground on the board For thermal aspects,please refer to the Data (See Datasheet)"

## XMC4500-F100K768 AB
designator U?
120 MHz XMC4500 MCU with 768 KByte Program Memory, 160 KByte SRAM, 3.3 V, -40 to 125 degC, PG-LQFP-100, Green; Manufacturer: Infineon; PartNumber: XMC4500-F100K768 AB; A / D input lines (incl. FADC): 18; Digital I/O Lines: 55; Green: TRUE; Type of Memory: Flash; Type of Serial I/O Interfaces: 6xSPI, Dual SPI, Quad SPI, UART, LIN, IIC, IIS; DatasheetVersion: Rev. 1.0; PackageVersion: Rev. 11, 11/2012; PackageReference: PG-LQFP-100-11; PackageDescription: 100-Pin Plastic (Green) Low Profile Quad Flat Package, 14 x 14 mm Body, 0.5 mm Pitch; Group: XMC4500; Halogen-free: TRUE; Program Memory: 768 KByte; RoHS: TRUE; SRAM (incl. Cache): 160 KByte; Mounting Technology: Surface Mount; ComponentLink1Description: Manufacturer URL; ComponentLink1URL: http://www.infineon.com/; ComponentLink2Description: Datasheet; ComponentLink2URL: http://www.infineon.com/dgdl/xmc4500_ds_v1+0_2013_01.pdf?folderId=db3a30433580b3710135a47f3eb76c98&fileId=db3a304335b504400135bdca7ed86742&location=en.Products.Microcontrollers.32-bit_Industrial_Microcontrollers_based_on_ARM__Cortex_-M.32-bit_XMC4000_Industrial_Microcontrollers_ARM__Cortex_-M4.DATASHEET.xmc4500_ds_v1 0_2013_01.pdf; ComponentLink3Description: Package Specification; ComponentLink3URL: http://www.infineon.com/dgdl/xmc4400_ds_v0.6_2012_11_.pdf?folderId=db3a30433580b3710135a47f3eb76c98&fileId=db3a30433afc7e3e013b3cfb455565a3&location=en.Products.Microcontrollers.32-bit_Industrial_Microcontrollers_based_on_ARM__Cortex_-M.32-bit_XMC4000_Industrial_Microcontrollers_ARM__Cortex_-M4.DATASHEET.xmc4400_ds_v0.6_2012_11_.pdf
footprint INF-PG-LQFP-100-11-7000X7000TP_N (QFP, 100-Leads, Body 14x14mm, Pitch 0.5mm, Thermal Pad 7x7mm, IPC Medium Density)
footprint INF-PG-LQFP-100-11-7000X7000TP_L (QFP, 100-Leads, Body 14x14mm, Pitch 0.5mm, Thermal Pad 7x7mm, IPC High Density)
footprint INF-PG-LQFP-100-11-7000X7000TP_M (QFP, 100-Leads, Body 14x14mm, Pitch 0.5mm, Thermal Pad 7x7mm, IPC Low Density)
part A pins: 1 P0.1 (io), 2 P0.0 (io), 3 P0.10 (io), 4 P0.9 (io), 5 P3.2 (io), 6 P3.1 (io), 7 P3.0 (io), 18 P15.3 (in), 19 P15.2 (in), 20 P14.15 (in), 21 P14.14 (in), 22 P14.13 (in), 23 P14.12 (in), 24 P14.7 (in), 25 P14.6 (in), 26 P14.5 (in), 27 P14.4 (in), 28 P14.3 (in), 29 P14.2 (in), 30 P14.1 (in), 31 P14.0 (in), 36 P14.9 (io), 37 P14.8 (io), 38 P15.9 (in), 39 P15.8 (in), 40 P2.15 (io), 41 P2.14 (io), 44 P2.10 (io), 45 P2.9 (io), 46 P2.8 (io), 47 P2.5 (io), 48 P2.4 (io), 49 P2.3 (io), 50 P2.2 (io), 51 P2.1 (io), 52 P2.0 (io), 53 P2.7 (io), 54 P2.6 (io), 55 P5.7 (io), 56 P5.2 (io), 57 P5.1 (io), 58 P5.0 (io), 68 P1.15 (io), 69 P1.14 (io), 70 P1.13 (io), 71 P1.12 (io), 72 P1.11 (io), 73 P1.10 (io), 74 P1.5 (io), 75 P1.4 (io), 76 P1.3 (io), 77 P1.2 (io), 78 P1.1 (io), 79 P1.0 (io), 80 P1.9 (io), 81 P1.8 (io), 82 P1.7 (io), 83 P1.6 (io), 84 P4.1 (io), 85 P4.0 (io), 88 P0.8 (io), 89 P0.7 (io), 90 P3.6 (io), 91 P3.5 (io), 92 P3.4 (io), 93 P3.3 (io), 94 P0.12 (io), 95 P0.11 (io), 96 P0.6 (io), 97 P0.5 (io), 98 P0.4 (io), 99 P0.3 (io), 100 P0.2 (io)
part B pins: 8 USB_DM (io), 9 USB_DP (io), 13 HIB_IO_1 (io), 14 HIB_IO_0 (io), 15 RTC_XTAL1, 16 RTC_XTAL2, 61 XTAL1, 62 XTAL2, 65 ~{PORST} (io) "Weak pull-up permanently active, strong pull-down controlled by EVR.", 66 TMS (io), 67 TCK (in)
part C pins: 10 VBUS (power), 11 VDDP (power), 12 VDDC (power), 17 VBAT (power) "When VDDP is supplied VBAT has to be supplied as well.", 32 VAGND (power), 33 VAREF (power), 34 VSSA (power), 35 VDDA (power), 42 VDDC (power), 43 VDDP (power), 59 VSS (power), 60 VDDP (power), 63 VSSO (power), 64 VDDC (power), 86 VDDC (power), 87 VDDP (power), 101 VSS (power) "Exposed Die Pad The exposed die pad is connected internally to VSS. For proper operation, it is mandatory to connect the exposed pad to the board ground. For thermal aspects, please refer to the Package and Reliability (See Datasheet)"

## XMC4500-F100K768 AC
designator U?
120 MHz XMC4500 MCU with 768 KByte Program Memory, 160 KByte SRAM, 3.3 V, -40 to 150 degC, PG-LQFP-100, Tray, Green; Manufacturer: Infineon; PartNumber: XMC4500-F100K768 AC; A / D input lines (incl. FADC): 18; Digital I/O Lines: 55; Green: TRUE; I/O Operation Voltages: 3.3 V; Instruction set architecture: ARM(R) Cortex(TM)-M4 (32-bit); Max Clock Frequency: 120 MHz; Type of Memory: Flash; Type of Serial I/O Interfaces: UART,SPI,I2C,I2S,LIN,CAN,Ethernet 10/100,USB; DatasheetVersion: Rev. 1.3; PackageVersion: Mar-13; PackageReference: PG-LQFP-100-11; PackageDescription: 100-Pin Plastic (Green) Low Profile Quad Flat Package, 14 x 14 mm Body, 0.5 mm Pitch; Group: XMC4500; Halogen-free: TRUE; Packing: Tray; Program Memory: 768 KByte; SRAM (incl. Cache): 160 KByte; Mounting Technology: Surface Mount; ComponentLink1Description: Manufacturer URL; ComponentLink1URL: http://www.infineon.com/; ComponentLink2Description: Datasheet; ComponentLink2URL: http://www.infineon.com/dgdl/xmc4500_ds_v1.3_2014_03.pdf?folderId=db3a30433580b3710135a47f3eb76c98&fileId=db3a304335b504400135bdca7ed86742; ComponentLink3Description: Package Specification; ComponentLink3URL: http://www.infineon.com/dgdl/PG-LQFP-100-3%2C-4%2C-8%2C-11-Package_Overview.pdf?folderId=db3a30431a5c32f2011a90c5ac475987&fileId=db3a30431a5c32f2011a9129fcd359d1
footprint INF-PG-LQFP-100-11-7000X7000TP_N (QFP, 100-Leads, Body 14x14mm, Pitch 0.5mm, Thermal Pad 7x7mm, IPC Medium Density)
footprint INF-PG-LQFP-100-11-7000X7000TP_L (QFP, 100-Leads, Body 14x14mm, Pitch 0.5mm, Thermal Pad 7x7mm, IPC High Density)
footprint INF-PG-LQFP-100-11-7000X7000TP_M (QFP, 100-Leads, Body 14x14mm, Pitch 0.5mm, Thermal Pad 7x7mm, IPC Low Density)
part A pins: 1 P0.1 (io), 2 P0.0 (io), 3 P0.10 (io), 4 P0.9 (io), 5 P3.2 (io), 6 P3.1 (io), 7 P3.0 (io), 18 P15.3 (in), 19 P15.2 (in), 20 P14.15 (in), 21 P14.14 (in), 22 P14.13 (in), 23 P14.12 (in), 24 P14.7 (in), 25 P14.6 (in), 26 P14.5 (in), 27 P14.4 (in), 28 P14.3 (in), 29 P14.2 (in), 30 P14.1 (in), 31 P14.0 (in), 36 P14.9 (io), 37 P14.8 (io), 38 P15.9 (in), 39 P15.8 (in), 40 P2.15 (io), 41 P2.14 (io), 44 P2.10 (io), 45 P2.9 (io), 46 P2.8 (io), 47 P2.5 (io), 48 P2.4 (io), 49 P2.3 (io), 50 P2.2 (io), 51 P2.1 (io), 52 P2.0 (io), 53 P2.7 (io), 54 P2.6 (io), 55 P5.7 (io), 56 P5.2 (io), 57 P5.1 (io), 58 P5.0 (io), 68 P1.15 (io), 69 P1.14 (io), 70 P1.13 (io), 71 P1.12 (io), 72 P1.11 (io), 73 P1.10 (io), 74 P1.5 (io), 75 P1.4 (io), 76 P1.3 (io), 77 P1.2 (io), 78 P1.1 (io), 79 P1.0 (io), 80 P1.9 (io), 81 P1.8 (io), 82 P1.7 (io), 83 P1.6 (io), 84 P4.1 (io), 85 P4.0 (io), 88 P0.8 (io), 89 P0.7 (io), 90 P3.6 (io), 91 P3.5 (io), 92 P3.4 (io), 93 P3.3 (io), 94 P0.12 (io), 95 P0.11 (io), 96 P0.6 (io), 97 P0.5 (io), 98 P0.4 (io), 99 P0.3 (io), 100 P0.2 (io)
part B pins: 8 USB_DM (io), 9 USB_DP (io), 13 HIB_IO_1 (io), 14 HIB_IO_0 (io), 15 RTC_XTAL1, 16 RTC_XTAL2, 61 XTAL1, 62 XTAL2, 65 ~{PORST} (io) "Weak pull-up permanently active, strong pull-down controlled by EVR.", 66 TMS (io) "Weak pull-up active.As output the strong-soft driver mode is active", 67 TCK (in) "Weak pull-down active."
part C pins: 10 VBUS (power), 11 VDDP (power), 12 VDDC (power), 17 VBAT (power) "When VDDP is supplied VBAT has to be supplied as well", 32 VAGND (power), 33 VAREF (power), 34 VSSA (power), 35 VDDA (power), 42 VDDC (power), 43 VDDP (power), 59 VSS (power), 60 VDDP (power), 63 VSSO (power), 64 VDDC (power), 86 VDDC (power), 87 VDDP (power), 101 EP (power) "Exposed Die Pad The exposed die pad is connected internally to VSS. For proper operation, it is mandatory to connect the exposed pad directly to the common ground on the board For thermal aspects,please refer to the Data (See Datasheet)"

## XMC4500-F100K1024 AB
designator U?
120 MHz XMC4500 MCU with 1,024 KByte Program Memory, 160 KByte SRAM, 3.3 V, -40 to 125 degC, PG-LQFP-100, Green; Manufacturer: Infineon; PartNumber: XMC4500-F100K1024 AB; A / D input lines (incl. FADC): 18; Digital I/O Lines: 55; Green: TRUE; Program Memory: 1024 KByte; Type of Memory: Flash; Type of Serial I/O Interfaces: 6xSPI, Dual SPI, Quad SPI, UART, LIN, IIC, IIS; DatasheetVersion: Rev. 1.0; PackageVersion: Rev. 11, 11/2012; PackageReference: PG-LQFP-100-11; PackageDescription: 100-Pin Plastic (Green) Low Profile Quad Flat Package, 14 x 14 mm Body, 0.5 mm Pitch; Supplier 1: Digi-Key; Supplier Part Number 1: XMC4500-F100K1024 ABIN-ND; Group: XMC4500; Halogen-free: TRUE; RoHS: TRUE; SRAM (incl. Cache): 160 KByte; Mounting Technology: Surface Mount; ComponentLink1Description: Manufacturer URL; ComponentLink1URL: http://www.infineon.com/; ComponentLink2Description: Datasheet; ComponentLink2URL: http://www.infineon.com/dgdl/xmc4500_ds_v1+0_2013_01.pdf?folderId=db3a30433580b3710135a47f3eb76c98&fileId=db3a304335b504400135bdca7ed86742&location=en.Products.Microcontrollers.32-bit_Industrial_Microcontrollers_based_on_ARM__Cortex_-M.32-bit_XMC4000_Industrial_Microcontrollers_ARM__Cortex_-M4.DATASHEET.xmc4500_ds_v1 0_2013_01.pdf; ComponentLink3Description: Package Specification; ComponentLink3URL: http://www.infineon.com/dgdl/xmc4400_ds_v0.6_2012_11_.pdf?folderId=db3a30433580b3710135a47f3eb76c98&fileId=db3a30433afc7e3e013b3cfb455565a3&location=en.Products.Microcontrollers.32-bit_Industrial_Microcontrollers_based_on_ARM__Cortex_-M.32-bit_XMC4000_Industrial_Microcontrollers_ARM__Cortex_-M4.DATASHEET.xmc4400_ds_v0.6_2012_11_.pdf
footprint INF-PG-LQFP-100-11-7000X7000TP_N (QFP, 100-Leads, Body 14x14mm, Pitch 0.5mm, Thermal Pad 7x7mm, IPC Medium Density)
footprint INF-PG-LQFP-100-11-7000X7000TP_L (QFP, 100-Leads, Body 14x14mm, Pitch 0.5mm, Thermal Pad 7x7mm, IPC High Density)
footprint INF-PG-LQFP-100-11-7000X7000TP_M (QFP, 100-Leads, Body 14x14mm, Pitch 0.5mm, Thermal Pad 7x7mm, IPC Low Density)
part A pins: 1 P0.1 (io), 2 P0.0 (io), 3 P0.10 (io), 4 P0.9 (io), 5 P3.2 (io), 6 P3.1 (io), 7 P3.0 (io), 18 P15.3 (in), 19 P15.2 (in), 20 P14.15 (in), 21 P14.14 (in), 22 P14.13 (in), 23 P14.12 (in), 24 P14.7 (in), 25 P14.6 (in), 26 P14.5 (in), 27 P14.4 (in), 28 P14.3 (in), 29 P14.2 (in), 30 P14.1 (in), 31 P14.0 (in), 36 P14.9 (io), 37 P14.8 (io), 38 P15.9 (in), 39 P15.8 (in), 40 P2.15 (io), 41 P2.14 (io), 44 P2.10 (io), 45 P2.9 (io), 46 P2.8 (io), 47 P2.5 (io), 48 P2.4 (io), 49 P2.3 (io), 50 P2.2 (io), 51 P2.1 (io), 52 P2.0 (io), 53 P2.7 (io), 54 P2.6 (io), 55 P5.7 (io), 56 P5.2 (io), 57 P5.1 (io), 58 P5.0 (io), 68 P1.15 (io), 69 P1.14 (io), 70 P1.13 (io), 71 P1.12 (io), 72 P1.11 (io), 73 P1.10 (io), 74 P1.5 (io), 75 P1.4 (io), 76 P1.3 (io), 77 P1.2 (io), 78 P1.1 (io), 79 P1.0 (io), 80 P1.9 (io), 81 P1.8 (io), 82 P1.7 (io), 83 P1.6 (io), 84 P4.1 (io), 85 P4.0 (io), 88 P0.8 (io), 89 P0.7 (io), 90 P3.6 (io), 91 P3.5 (io), 92 P3.4 (io), 93 P3.3 (io), 94 P0.12 (io), 95 P0.11 (io), 96 P0.6 (io), 97 P0.5 (io), 98 P0.4 (io), 99 P0.3 (io), 100 P0.2 (io)
part B pins: 8 USB_DM (io), 9 USB_DP (io), 13 HIB_IO_1 (io), 14 HIB_IO_0 (io), 15 RTC_XTAL1, 16 RTC_XTAL2, 61 XTAL1, 62 XTAL2, 65 ~{PORST} (io) "Weak pull-up permanently active, strong pull-down controlled by EVR.", 66 TMS (io), 67 TCK (in)
part C pins: 10 VBUS (power), 11 VDDP (power), 12 VDDC (power), 17 VBAT (power) "When VDDP is supplied VBAT has to be supplied as well.", 32 VAGND (power), 33 VAREF (power), 34 VSSA (power), 35 VDDA (power), 42 VDDC (power), 43 VDDP (power), 59 VSS (power), 60 VDDP (power), 63 VSSO (power), 64 VDDC (power), 86 VDDC (power), 87 VDDP (power), 101 VSS (power) "Exposed Die Pad The exposed die pad is connected internally to VSS. For proper operation, it is mandatory to connect the exposed pad to the board ground. For thermal aspects, please refer to the Package and Reliability (See Datasheet)"

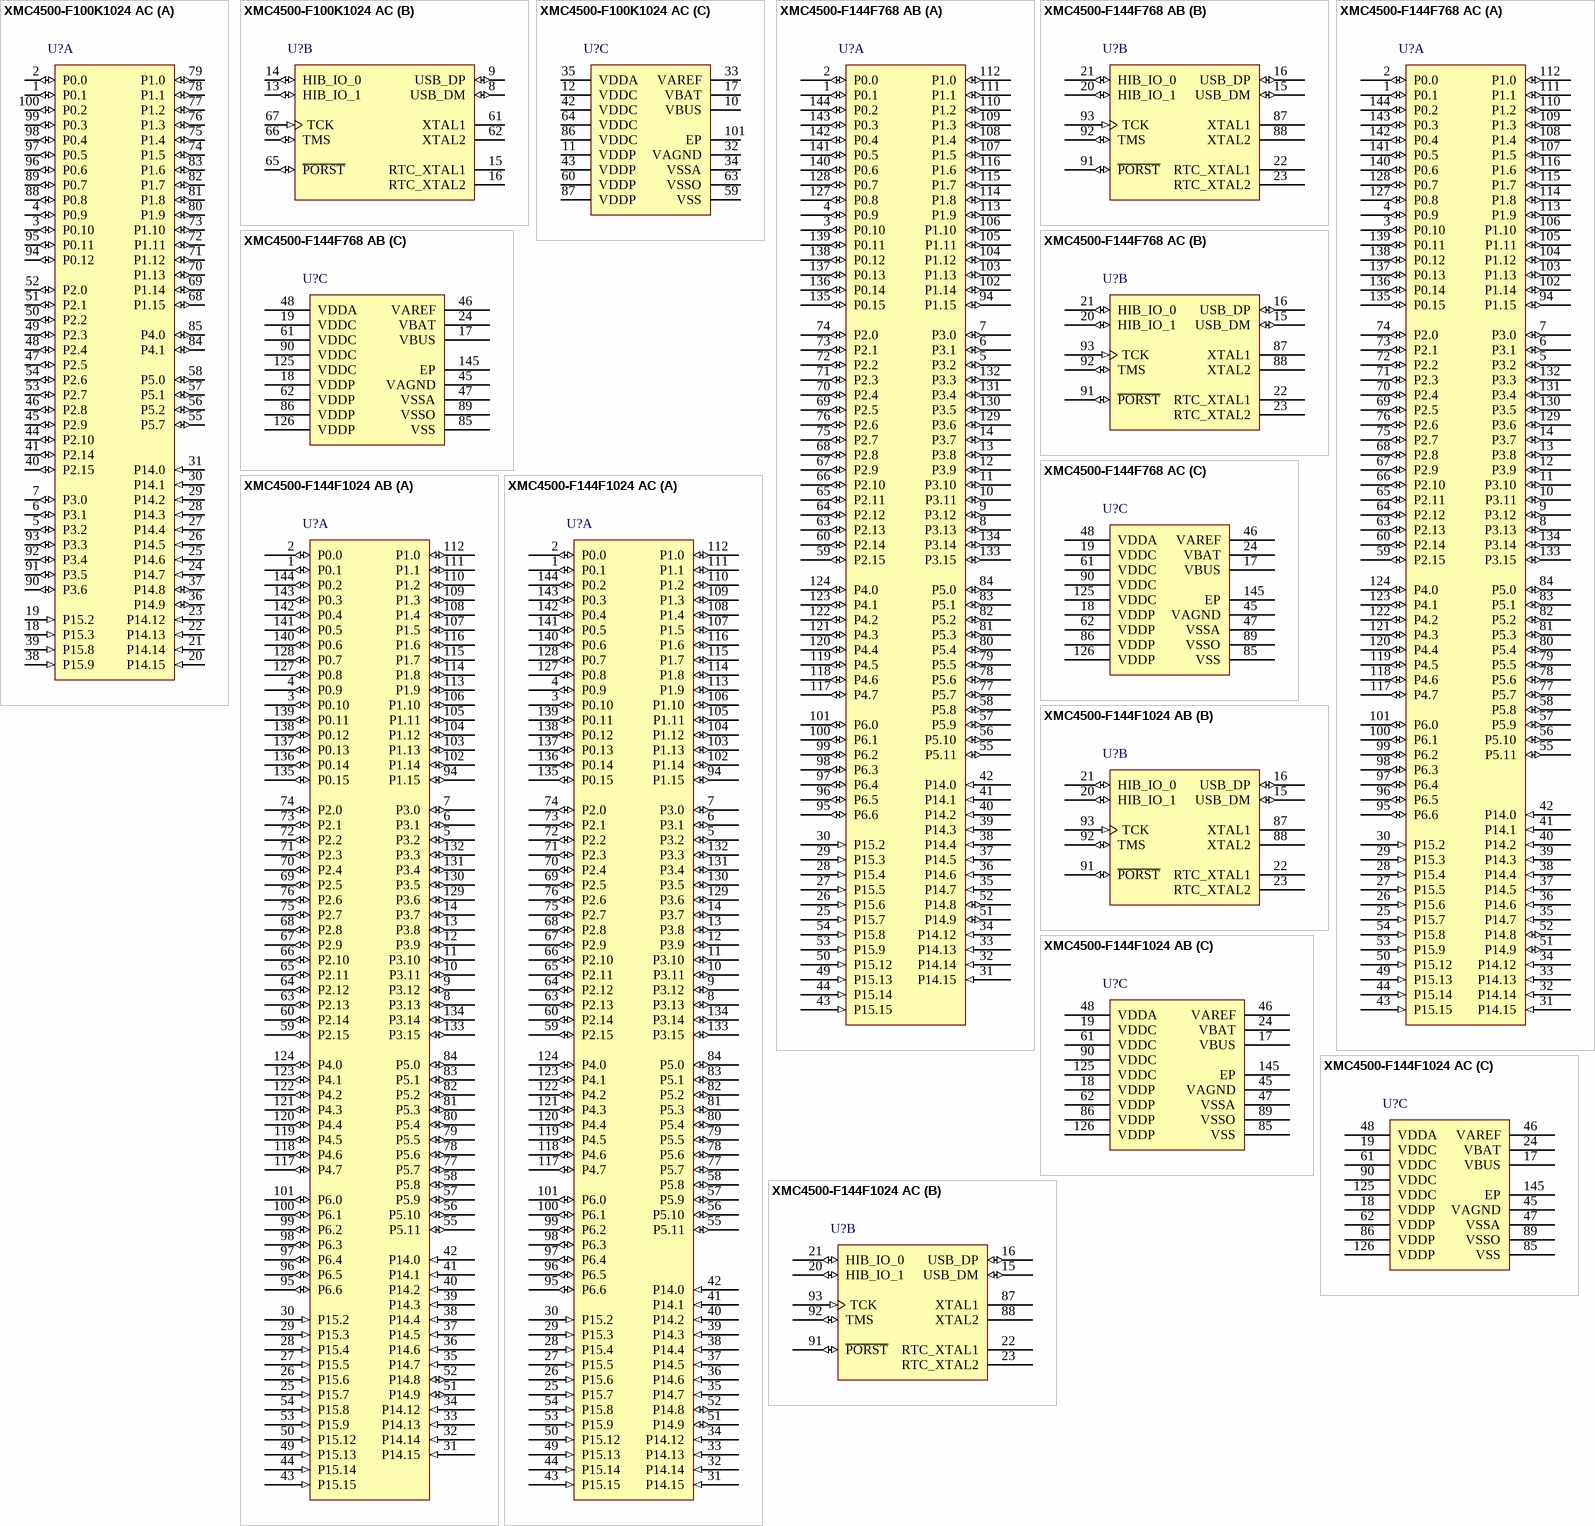
[diagram p115: symbols XMC4500-F100K1024 AC to XMC4500-F144F1024 AC]

## XMC4500-F100K1024 AC
designator U?
120 MHz XMC4500 MCU with 1024 KByte Program Memory, 160 KByte SRAM, 3.3 V, -40 to 150 degC, PG-LQFP-100, Tray, Green; Manufacturer: Infineon; PartNumber: XMC4500-F100K1024 AC; A / D input lines (incl. FADC): 18; Digital I/O Lines: 55; Green: TRUE; I/O Operation Voltages: 3.3 V; Instruction set architecture: ARM(R) Cortex(TM)-M4 (32-bit); Max Clock Frequency: 120 MHz; Program Memory: 1,024 KByte; Type of Memory: Flash; Type of Serial I/O Interfaces: UART,SPI,I2C,I2S,LIN,CAN,Ethernet 10/100,USB; DatasheetVersion: Rev. 1.3; PackageVersion: Mar-13; PackageReference: PG-LQFP-100-11; PackageDescription: 100-Pin Plastic (Green) Low Profile Quad Flat Package, 14 x 14 mm Body, 0.5 mm Pitch; Supplier 1: Farnell; Supplier Part Number 1: 2418739; Supplier 2: Newark; Supplier Part Number 2: 52X6575; Group: XMC4500; Halogen-free: TRUE; Packing: Tray; SRAM (incl. Cache): 160 KByte; Mounting Technology: Surface Mount; ComponentLink1Description: Manufacturer URL; ComponentLink1URL: http://www.infineon.com/; ComponentLink2Description: Datasheet; ComponentLink2URL: http://www.infineon.com/dgdl/xmc4500_ds_v1.3_2014_03.pdf?folderId=db3a30433580b3710135a47f3eb76c98&fileId=db3a304335b504400135bdca7ed86742; ComponentLink3Description: Package Specification; ComponentLink3URL: http://www.infineon.com/dgdl/PG-LQFP-100-3%2C-4%2C-8%2C-11-Package_Overview.pdf?folderId=db3a30431a5c32f2011a90c5ac475987&fileId=db3a30431a5c32f2011a9129fcd359d1
footprint INF-PG-LQFP-100-11-7000X7000TP_N (QFP, 100-Leads, Body 14x14mm, Pitch 0.5mm, Thermal Pad 7x7mm, IPC Medium Density)
footprint INF-PG-LQFP-100-11-7000X7000TP_L (QFP, 100-Leads, Body 14x14mm, Pitch 0.5mm, Thermal Pad 7x7mm, IPC High Density)
footprint INF-PG-LQFP-100-11-7000X7000TP_M (QFP, 100-Leads, Body 14x14mm, Pitch 0.5mm, Thermal Pad 7x7mm, IPC Low Density)
part A pins: 1 P0.1 (io), 2 P0.0 (io), 3 P0.10 (io), 4 P0.9 (io), 5 P3.2 (io), 6 P3.1 (io), 7 P3.0 (io), 18 P15.3 (in), 19 P15.2 (in), 20 P14.15 (in), 21 P14.14 (in), 22 P14.13 (in), 23 P14.12 (in), 24 P14.7 (in), 25 P14.6 (in), 26 P14.5 (in), 27 P14.4 (in), 28 P14.3 (in), 29 P14.2 (in), 30 P14.1 (in), 31 P14.0 (in), 36 P14.9 (io), 37 P14.8 (io), 38 P15.9 (in), 39 P15.8 (in), 40 P2.15 (io), 41 P2.14 (io), 44 P2.10 (io), 45 P2.9 (io), 46 P2.8 (io), 47 P2.5 (io), 48 P2.4 (io), 49 P2.3 (io), 50 P2.2 (io), 51 P2.1 (io), 52 P2.0 (io), 53 P2.7 (io), 54 P2.6 (io), 55 P5.7 (io), 56 P5.2 (io), 57 P5.1 (io), 58 P5.0 (io), 68 P1.15 (io), 69 P1.14 (io), 70 P1.13 (io), 71 P1.12 (io), 72 P1.11 (io), 73 P1.10 (io), 74 P1.5 (io), 75 P1.4 (io), 76 P1.3 (io), 77 P1.2 (io), 78 P1.1 (io), 79 P1.0 (io), 80 P1.9 (io), 81 P1.8 (io), 82 P1.7 (io), 83 P1.6 (io), 84 P4.1 (io), 85 P4.0 (io), 88 P0.8 (io), 89 P0.7 (io), 90 P3.6 (io), 91 P3.5 (io), 92 P3.4 (io), 93 P3.3 (io), 94 P0.12 (io), 95 P0.11 (io), 96 P0.6 (io), 97 P0.5 (io), 98 P0.4 (io), 99 P0.3 (io), 100 P0.2 (io)
part B pins: 8 USB_DM (io), 9 USB_DP (io), 13 HIB_IO_1 (io), 14 HIB_IO_0 (io), 15 RTC_XTAL1, 16 RTC_XTAL2, 61 XTAL1, 62 XTAL2, 65 ~{PORST} (io) "Weak pull-up permanently active, strong pull-down controlled by EVR.", 66 TMS (io) "Weak pull-up active.As output the strong-soft driver mode is active", 67 TCK (in) "Weak pull-down active."
part C pins: 10 VBUS (power), 11 VDDP (power), 12 VDDC (power), 17 VBAT (power) "When VDDP is supplied VBAT has to be supplied as well", 32 VAGND (power), 33 VAREF (power), 34 VSSA (power), 35 VDDA (power), 42 VDDC (power), 43 VDDP (power), 59 VSS (power), 60 VDDP (power), 63 VSSO (power), 64 VDDC (power), 86 VDDC (power), 87 VDDP (power), 101 EP (power) "Exposed Die Pad The exposed die pad is connected internally to VSS. For proper operation, it is mandatory to connect the exposed pad directly to the common ground on the board For thermal aspects,please refer to the Data (See Datasheet)"